# Altium footprint library Texas_Instruments.PcbLib: 113 footprints (part 3 of 8)
Each footprint in its own frame and in the unit in brackets; x right, y up, seen from the top. Pads: shape width x height; smd on the part's side, far side on the other; paste and mask are expansions set on the pad; w line width, h text height; cw(c..) or ccw(c..) is an arc to the next point about the centre after c.
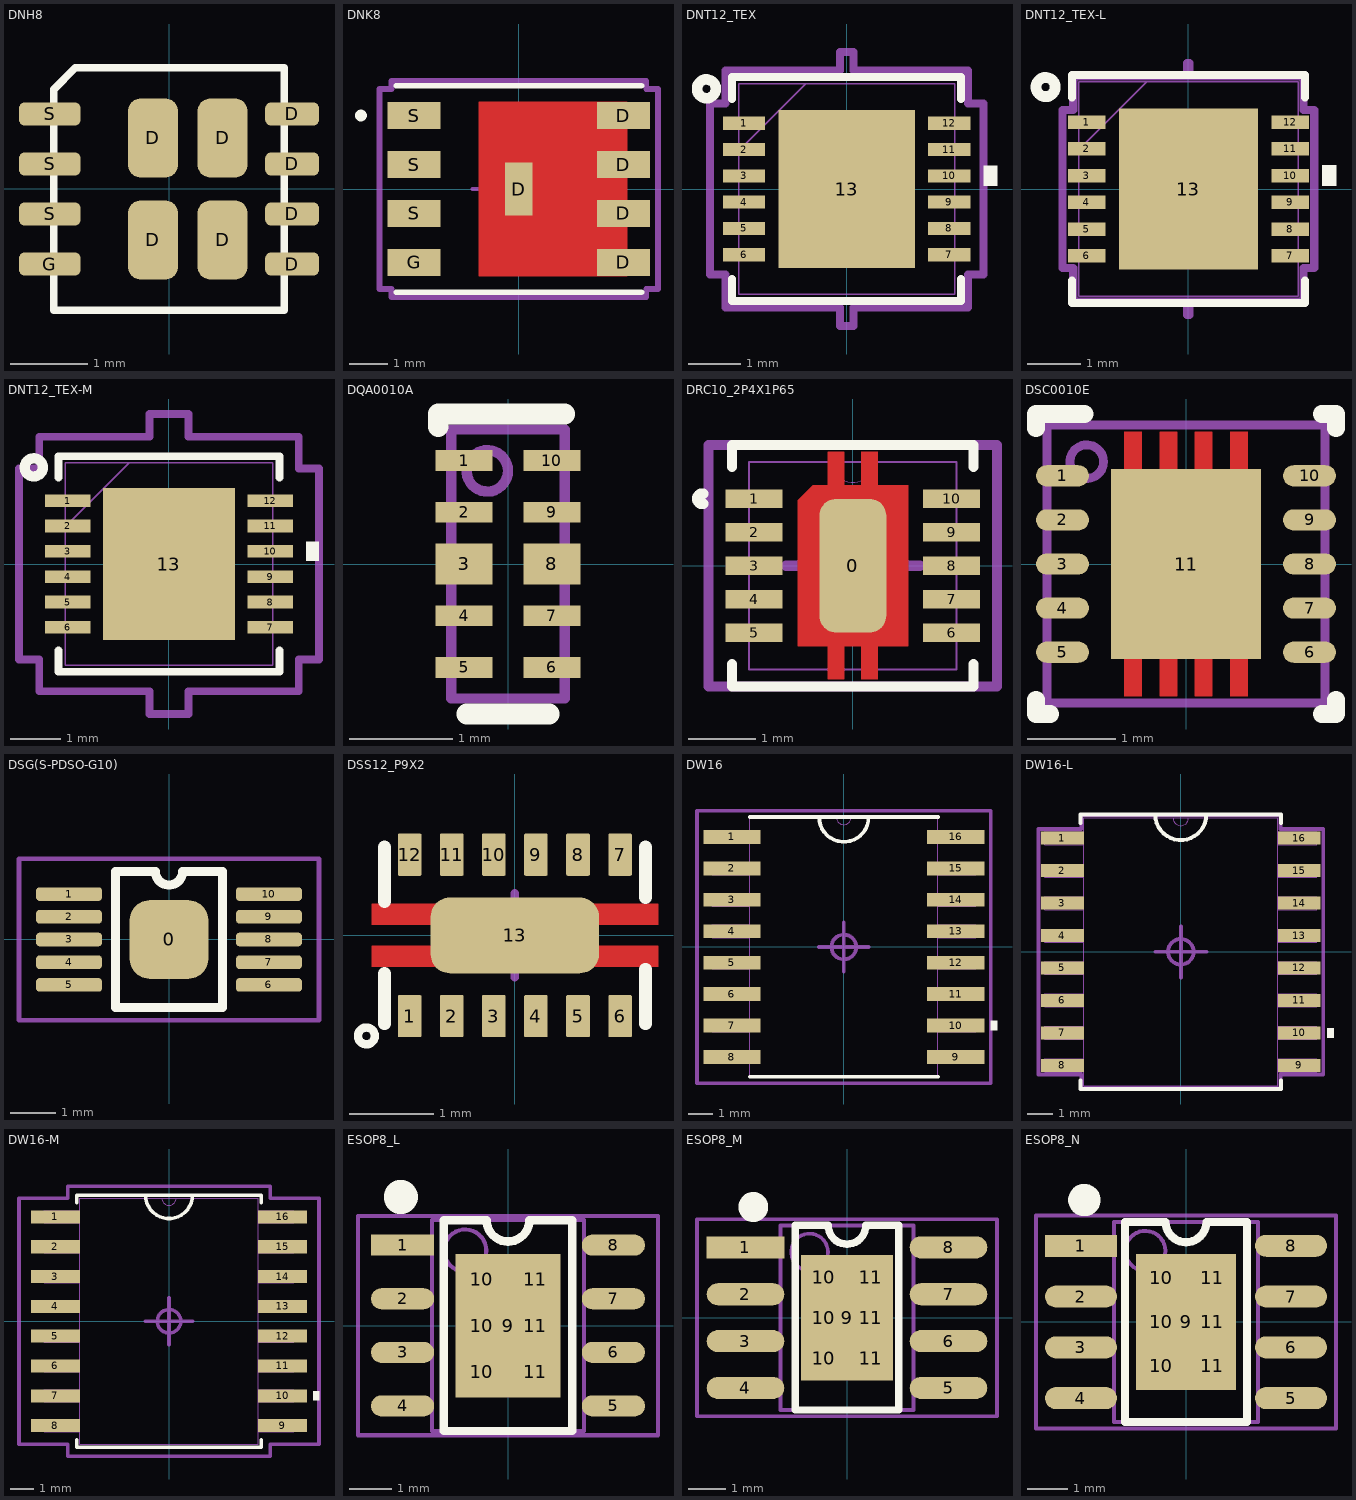
[diagram p2: the footprints below, top view; thin cyan lines are the x and y axes]

## DNH8 [mm]
pads (12):
  rrect50% 0.65x1.025 smd: D(-0.208,-0.663) D(-0.208,0.663) D(0.697,-0.663) D(0.697,0.663)
  rrect50% 0.7x0.3 smd: D(1.6,-0.975) D(1.6,-0.325) D(1.6,0.325) D(1.6,0.975)
  rrect50% 0.8x0.3 smd: G(-1.55,-0.975) S(-1.55,-0.325) S(-1.55,0.325) S(-1.55,0.975)
Top Overlay:
  lines w0.1: -1.5,-1.575 1.5,-1.575 1.5,1.575 -1.219,1.575 -1.5,1.294 -1.5,-1.575
3D body "User Library-8-VSONP3x3.STEP": height 0.9, standoff 0, extent -1.885,-1.9 1.885,1.9

## DNK8 [mm]
pads (9):
  rect 0.71x1.372 smd paste-0.673: D(0,0)
  rect 1.372x0.71 smd paste-0.673: D(2.712,-1.905) D(2.712,-0.635) D(2.712,0.635) D(2.712,1.905) G(-2.712,-1.905) S(-2.712,-0.635) S(-2.712,0.635) S(-2.712,1.905)
Top Layer:
  region: -1.042,-2.26 -1.042,2.26 2.808,2.26 2.808,-2.26
Top Overlay:
  circle w0.152: c-4.091,1.905 r0.076
  lines w0.152: -3.177,-2.677 3.177,-2.677 ; -3.177,2.677 3.177,2.677
Top Solder:
  region: 2.765,-2.26 2.765,2.26 -1.085,2.26 -1.085,-2.26
  region: -2.026,2.26 -3.398,2.26 -3.398,1.55 -2.026,1.55
  region: 3.398,2.26 2.026,2.26 2.026,1.55 3.398,1.55
  region: 3.398,0.99 2.026,0.99 2.026,0.28 3.398,0.28
  region: 3.398,-0.28 2.026,-0.28 2.026,-0.99 3.398,-0.99
  region: 3.398,-1.55 2.026,-1.55 2.026,-2.26 3.398,-2.26
  region: -2.026,-1.55 -3.398,-1.55 -3.398,-2.26 -2.026,-2.26
  region: -2.026,-0.28 -3.398,-0.28 -3.398,-0.99 -2.026,-0.99
  region: -2.026,0.99 -3.398,0.99 -3.398,0.28 -2.026,0.28
Mechanical 15:
  circle w0.1: c0,0 r0.5
  lines w0.1: -1.2,0 0,0 ; 0,-1.2 0,0 ; 0,1.2 0,0 ; 1.2,0 0,0
  lines w0.152: -3.609,-2.591 -3.304,-2.591 -3.304,-2.804 3.304,-2.804 3.304,-2.591 3.609,-2.591 3.609,2.591 3.304,2.591 3.304,2.804 -3.304,2.804 -3.304,2.591 -3.609,2.591 -3.609,-2.591
3D body "User Library-VSON-8.STEP": height 1, standoff 0, extent -3,-2.5 3.002,2.5

## DNT12_TEX [mm]
pads (13):
  rect 0.8x0.25 smd: 1(-1.95,1.25) 2(-1.95,0.75) 3(-1.95,0.25) 4(-1.95,-0.25) 5(-1.95,-0.75) 6(-1.95,-1.25) 7(1.95,-1.25) 8(1.95,-0.75) 9(1.95,-0.25) 10(1.95,0.25) 11(1.95,0.75) 12(1.95,1.25)
  rect 2.6x3 smd: 13(0,0)
Top Overlay:
  circle w0.2: c-2.667,1.905 r0.18
  region: 2.604,0.44 2.858,0.44 2.858,0.059 2.604,0.059
  lines w0.152: -2.177,-1.708 -2.177,-2.127 2.177,-2.127 2.177,-1.708 ; -2.177,1.708 -2.177,2.127 2.177,2.127 2.177,1.708
Top Paste:
  drawing of 16 lines, arcs and shapes, not listed
Top Solder:
  region: 0.987,-1.563 0.987,1.563 1.363,1.563 1.363,-1.563
  region: 0.587,-1.563 0.587,1.563 0.2,1.563 0.2,-1.563
  region: -0.2,-1.563 -0.2,1.563 -0.587,1.563 -0.587,-1.563
  region: -1.363,-1.563 -1.363,1.563 -0.987,1.563 -0.987,-1.563
  region: -1.363,-1.563 -1.363,-0.987 1.363,-0.987 1.363,-1.563
  region: -1.363,-0.587 -1.363,-0.2 1.363,-0.2 1.363,-0.587
  region: -1.363,0.2 -1.363,0.587 1.363,0.587 1.363,0.2
  region: -1.363,0.987 -1.363,1.563 1.363,1.563 1.363,0.987
Mechanical 13:
  lines w0.025: -2.05,0.73 -0.78,2 ; -2.05,-2 -2.05,2 2.05,2 2.05,-2 -2.05,-2 ; -2.05,-1.4 -2.05,-1.1 -2.05,-1.4 ; -2.05,-0.9 -2.05,-0.6 -2.05,-0.9 ; -2.05,-0.4 -2.05,-0.1 -2.05,-0.4 ; -2.05,0.1 -2.05,0.4 -2.05,0.1 ; -2.05,0.6 -2.05,0.9 -2.05,0.6 ; -2.05,1.1 -2.05,1.4 -2.05,1.1 ; 2.05,-1.4 2.05,-1.1 2.05,-1.4 ; 2.05,-0.9 2.05,-0.6 2.05,-0.9 ; 2.05,-0.4 2.05,-0.1 2.05,-0.4 ; 2.05,0.1 2.05,0.4 2.05,0.1 ; 2.05,0.6 2.05,0.9 2.05,0.6 ; 2.05,1.1 2.05,1.4 2.05,1.1
Mechanical 15:
  circle w0.1: c0,0 r0.5
  lines w0.1: -1,0 0,0 ; 0,-1 0,0 ; 0,1 0,0 ; 1,0 0,0
  lines w0.152: -2.604,-1.629 -2.604,1.629 -2.304,1.629 -2.304,2.254 -0.129,2.254 -0.129,2.604 0.129,2.604 0.129,2.254 2.304,2.254 2.304,1.629 2.604,1.629 2.604,-1.629 2.304,-1.629 2.304,-2.254 0.129,-2.254 0.129,-2.604 -0.129,-2.604 -0.129,-2.254 -2.304,-2.254 -2.304,-1.629 -2.604,-1.629
3D body "DNT0012B.stp": height 0.97, standoff 0, extent -2,-2 2,2

## DNT12_TEX-L [mm]
pads (13):
  rect 0.7x0.25 smd: 1(-1.9,1.25) 2(-1.9,0.75) 3(-1.9,0.25) 4(-1.9,-0.25) 5(-1.9,-0.75) 6(-1.9,-1.25) 7(1.9,-1.25) 8(1.9,-0.75) 9(1.9,-0.25) 10(1.9,0.25) 11(1.9,0.75) 12(1.9,1.25)
  rect 2.6x3 smd: 13(0,0)
Top Overlay:
  circle w0.2: c-2.667,1.905 r0.18
  region: 2.504,0.44 2.758,0.44 2.758,0.059 2.504,0.059
  lines w0.152: -2.177,-1.708 -2.177,-2.127 2.177,-2.127 2.177,-1.708 ; -2.177,1.708 -2.177,2.127 2.177,2.127 2.177,1.708
Top Paste:
  drawing of 16 lines, arcs and shapes, not listed
Top Solder:
  region: -1.363,0.987 -1.363,1.563 1.363,1.563 1.363,0.987
  region: -1.363,0.2 -1.363,0.587 1.363,0.587 1.363,0.2
  region: -1.363,-0.587 -1.363,-0.2 1.363,-0.2 1.363,-0.587
  region: -1.363,-1.563 -1.363,-0.987 1.363,-0.987 1.363,-1.563
  region: -1.363,-1.563 -1.363,1.563 -0.987,1.563 -0.987,-1.563
  region: -0.2,-1.563 -0.2,1.563 -0.587,1.563 -0.587,-1.563
  region: 0.587,-1.563 0.587,1.563 0.2,1.563 0.2,-1.563
  region: 0.987,-1.563 0.987,1.563 1.363,1.563 1.363,-1.563
Mechanical 13:
  lines w0.025: -2.05,0.73 -0.78,2 ; -2.05,-2 2.05,-2 2.05,2 -2.05,2 -2.05,-2 ; -2.05,-1.4 -2.05,-1.1 -2.05,-1.4 ; -2.05,-0.9 -2.05,-0.6 -2.05,-0.9 ; -2.05,-0.4 -2.05,-0.1 -2.05,-0.4 ; -2.05,0.1 -2.05,0.4 -2.05,0.1 ; -2.05,0.6 -2.05,0.9 -2.05,0.6 ; -2.05,1.1 -2.05,1.4 -2.05,1.1 ; 2.05,-1.4 2.05,-1.1 2.05,-1.4 ; 2.05,-0.9 2.05,-0.6 2.05,-0.9 ; 2.05,-0.4 2.05,-0.1 2.05,-0.4 ; 2.05,0.1 2.05,0.4 2.05,0.1 ; 2.05,0.6 2.05,0.9 2.05,0.6 ; 2.05,1.1 2.05,1.4 2.05,1.1
Mechanical 15:
  circle w0.1: c0,0 r0.5
  lines w0.1: -1,0 0,0 ; 0,-1 0,0 ; 0,1 0,0 ; 1,0 0,0
  lines w0.152: -2.352,-1.477 -2.152,-1.477 -2.152,-2.102 0.023,-2.102 0.023,-2.352 -0.023,-2.352 -0.023,-2.102 2.152,-2.102 2.152,-1.477 2.352,-1.477 2.352,1.477 2.152,1.477 2.152,2.102 -0.023,2.102 -0.023,2.352 0.023,2.352 0.023,2.102 -2.152,2.102 -2.152,1.477 -2.352,1.477 -2.352,-1.477
3D body "DNT0012B.stp": height 0.97, standoff 0, extent -2,-2 2,2

## DNT12_TEX-M [mm]
pads (13):
  rect 0.9x0.25 smd paste+0 mask+0: 1(-2,1.25) 2(-2,0.75) 3(-2,0.25) 4(-2,-0.25) 5(-2,-0.75) 6(-2,-1.25) 7(2,-1.25) 8(2,-0.75) 9(2,-0.25) 10(2,0.25) 11(2,0.75) 12(2,1.25)
  rect 2.6x3 smd paste-1.487 mask-1.486: 13(0,0)
Top Overlay:
  circle w0.2: c-2.667,1.905 r0.18
  region: 2.704,0.44 2.958,0.44 2.958,0.059 2.704,0.059
  lines w0.152: -2.177,-1.708 -2.177,-2.127 2.177,-2.127 2.177,-1.708 ; -2.177,1.708 -2.177,2.127 2.177,2.127 2.177,1.708
Top Paste:
  drawing of 16 lines, arcs and shapes, not listed
Top Solder:
  region: 0.987,-1.563 0.987,1.563 1.363,1.563 1.363,-1.563
  region: 0.587,-1.563 0.587,1.563 0.2,1.563 0.2,-1.563
  region: -0.2,-1.563 -0.2,1.563 -0.587,1.563 -0.587,-1.563
  region: -1.363,-1.563 -1.363,1.563 -0.987,1.563 -0.987,-1.563
  region: -1.363,-1.563 -1.363,-0.987 1.363,-0.987 1.363,-1.563
  region: -1.363,-0.587 -1.363,-0.2 1.363,-0.2 1.363,-0.587
  region: -1.363,0.2 -1.363,0.587 1.363,0.587 1.363,0.2
  region: -1.363,0.987 -1.363,1.563 1.363,1.563 1.363,0.987
Mechanical 13:
  lines w0.025: -2.05,0.73 -0.78,2 ; -2.05,-2 -2.05,2 2.05,2 2.05,-2 -2.05,-2 ; -2.05,-1.4 -2.05,-1.1 -2.05,-1.4 ; -2.05,-0.9 -2.05,-0.6 -2.05,-0.9 ; -2.05,-0.4 -2.05,-0.1 -2.05,-0.4 ; -2.05,0.1 -2.05,0.4 -2.05,0.1 ; -2.05,0.6 -2.05,0.9 -2.05,0.6 ; -2.05,1.1 -2.05,1.4 -2.05,1.1 ; 2.05,-1.4 2.05,-1.1 2.05,-1.4 ; 2.05,-0.9 2.05,-0.6 2.05,-0.9 ; 2.05,-0.4 2.05,-0.1 2.05,-0.4 ; 2.05,0.1 2.05,0.4 2.05,0.1 ; 2.05,0.6 2.05,0.9 2.05,0.6 ; 2.05,1.1 2.05,1.4 2.05,1.1
Mechanical 15:
  circle w0.1: c0,0 r0.5
  lines w0.1: -1,0 0,0 ; 0,-1 0,0 ; 0,1 0,0 ; 1,0 0,0
  lines w0.152: -2.958,-1.883 -2.958,1.883 -2.558,1.883 -2.558,2.508 -0.383,2.508 -0.383,2.958 0.383,2.958 0.383,2.508 2.558,2.508 2.558,1.883 2.958,1.883 2.958,-1.883 2.558,-1.883 2.558,-2.508 0.383,-2.508 0.383,-2.958 -0.383,-2.958 -0.383,-2.508 -2.558,-2.508 -2.558,-1.883 -2.958,-1.883
3D body "DNT0012B.stp": height 0.97, standoff 0, extent -2,-2 2,2

## DQA0010A [mm]
pads (10):
  rect 0.55x0.2 smd paste+0 mask+0.051: 1(-0.425,1) 2(-0.425,0.5) 4(-0.425,-0.5) 5(-0.425,-1) 6(0.425,-1) 7(0.425,-0.5) 9(0.425,0.5) 10(0.425,1)
  rect 0.55x0.4 smd paste+0 mask+0.051: 3(-0.425,0) 8(0.425,0)
Top Overlay:
  lines w0.2: -0.675,1.33 -0.675,1.45 -0.55,1.45 0.55,1.45 ; -0.4,-1.45 0.4,-1.45
Mechanical 13:
  circle w0.1: c-0.2,0.9 r0.2
  lines w0.1: -0.55,-1.3 0.55,-1.3 0.55,1.3 -0.55,1.3 -0.55,-1.3
3D body "DQA0010A.stp": height 0.55, standoff 0, extent -0.5,-1.25 0.5,1.25

## DRC10_2P4X1P65 [mm]
pads (11):
  rrect50% 1x2 smd: 0(0,0)
  rect 0.85x0.28 smd: 1(-1.475,1) 2(-1.475,0.5) 3(-1.475,0) 4(-1.475,-0.5) 5(-1.475,-1) 6(1.475,-1) 7(1.475,-0.5) 8(1.475,0) 9(1.475,0.5) 10(1.475,1)
Top Layer:
  region: -0.375,-1.7 -0.375,-1.2 -0.825,-1.2 -0.825,0.975 -0.6,1.2 -0.375,1.2 -0.375,1.7 -0.125,1.7 -0.125,1.2 0.125,1.2 0.125,1.7 0.375,1.7 0.375,1.2 0.825,1.2 0.825,-1.2 0.375,-1.2 0.375,-1.7 0.125,-1.7 0.125,-1.2 -0.125,-1.2 -0.125,-1.7
Top Overlay:
  lines w0.152: -2.233,0.926 cw(c-2.252,1) -2.233,1.074 ; -1.804,-1.473 -1.804,-1.804 1.804,-1.804 1.804,-1.473 ; -1.804,1.473 -1.804,1.804 1.804,1.804 1.804,1.473
Top Paste:
  region: 1.865,1.105 1.085,1.105 1.085,0.895 1.865,0.895
  region: 1.865,0.605 1.085,0.605 1.085,0.395 1.865,0.395
  region: 1.865,0.105 1.085,0.105 1.085,-0.105 1.865,-0.105
  region: 1.865,-0.395 1.085,-0.395 1.085,-0.605 1.865,-0.605
  region: 1.865,-0.895 1.085,-0.895 1.085,-1.105 1.865,-1.105
  region: -1.085,-0.895 -1.865,-0.895 -1.865,-1.105 -1.085,-1.105
  region: -1.085,-0.395 -1.865,-0.395 -1.865,-0.605 -1.085,-0.605
  region: -1.085,0.105 -1.865,0.105 -1.865,-0.105 -1.085,-0.105
  region: -1.085,0.605 -1.865,0.605 -1.865,0.395 -1.085,0.395
  region: -1.085,1.105 -1.865,1.105 -1.865,0.895 -1.085,0.895
  region: -0.375,-1.7 -0.375,-1.2 -0.825,-1.2 -0.825,0.975 -0.6,1.2 -0.375,1.2 -0.375,1.7 -0.125,1.7 -0.125,1.2 0.125,1.2 0.125,1.7 0.375,1.7 0.375,1.2 0.825,1.2 0.825,-1.2 0.375,-1.2 0.375,-1.7 0.125,-1.7 0.125,-1.2 -0.125,-1.2 -0.125,-1.7
Top Solder:
  region: 1.935,1.175 1.015,1.175 1.015,0.825 1.935,0.825
  region: 1.935,0.675 1.015,0.675 1.015,0.325 1.935,0.325
  region: 1.935,0.175 1.015,0.175 1.015,-0.175 1.935,-0.175
  region: 1.935,-0.325 1.015,-0.325 1.015,-0.675 1.935,-0.675
  region: 1.935,-0.825 1.015,-0.825 1.015,-1.175 1.935,-1.175
  region: -1.015,-0.825 -1.935,-0.825 -1.935,-1.175 -1.015,-1.175
  region: -1.015,-0.325 -1.935,-0.325 -1.935,-0.675 -1.015,-0.675
  region: -1.015,0.175 -1.935,0.175 -1.935,-0.175 -1.015,-0.175
  region: -1.015,0.675 -1.935,0.675 -1.935,0.325 -1.015,0.325
  region: -1.015,1.175 -1.935,1.175 -1.935,0.825 -1.015,0.825
  region: -0.375,-1.7 -0.375,-1.2 -0.825,-1.2 -0.825,0.975 -0.6,1.2 -0.375,1.2 -0.375,1.7 -0.125,1.7 -0.125,1.2 0.125,1.2 0.125,1.7 0.375,1.7 0.375,1.2 0.825,1.2 0.825,-1.2 0.375,-1.2 0.375,-1.7 0.125,-1.7 0.125,-1.2 -0.125,-1.2 -0.125,-1.7
Mechanical 13:
  circle w0: c-2.252,1 r0.076
  lines w0: -0.305,1.55 ccw(c0,1.55) 0.305,1.55
  lines w0.025: -1.55,-1.55 -1.55,1.55 1.55,1.55 1.55,-1.55 -1.55,-1.55
Mechanical 15:
  circle w0.152: c0,0 r0.5
  lines w0.152: -1,0 0,0 ; 0,-1 0,0 ; 0,1 0,0 ; 1,0 0,0 ; -2.154,-1.804 2.154,-1.804 2.154,1.804 -2.154,1.804 -2.154,-1.804
3D body "DRC10_2P4X1P65.step": height 1, standoff 0, extent -1.499,-1.55 1.499,1.55

## DSC0010E [mm]
pads (11):
  oval 0.6x0.24 smd paste+0 mask+0.051: 1(-1.4,1) 2(-1.4,0.5) 3(-1.4,0) 4(-1.4,-0.5) 5(-1.4,-1) 6(1.4,-1) 7(1.4,-0.5) 8(1.4,0) 9(1.4,0.5) 10(1.4,1)
  rect 1.7x2.15 smd paste-1.062 mask+0.051: 11(0,0)
Top Layer:
  region: -0.7,1.5 -0.7,1.06 -0.5,1.06 -0.5,1.5
  region: -0.3,1.5 -0.3,1.06 -0.1,1.06 -0.1,1.5
  region: 0.3,1.06 0.3,1.5 0.1,1.5 0.1,1.06
  region: 0.7,1.06 0.7,1.5 0.5,1.5 0.5,1.06
  region: 0.7,-1.5 0.7,-1.06 0.5,-1.06 0.5,-1.5
  region: 0.3,-1.5 0.3,-1.06 0.1,-1.06 0.1,-1.5
  region: -0.3,-1.06 -0.3,-1.5 -0.1,-1.5 -0.1,-1.06
  region: -0.7,-1.06 -0.7,-1.5 -0.5,-1.5 -0.5,-1.06
Top Overlay:
  lines w0.2: -1.7,-1.54 -1.7,-1.7 -1.54,-1.7 ; -1.7,1.54 -1.7,1.7 -1.15,1.7 ; 1.54,-1.7 1.7,-1.7 1.7,-1.54 ; 1.54,1.7 1.7,1.7 1.7,1.54
Top Paste:
  region: -0.775,0.1 0.775,0.1 0.775,1.075 -0.775,1.075
  region: 0.775,-0.1 -0.775,-0.1 -0.775,-1.075 0.775,-1.075
Top Solder:
  region: -0.751,1.551 -0.751,1.009 -0.449,1.009 -0.449,1.551
  region: -0.351,1.551 -0.351,1.009 -0.049,1.009 -0.049,1.551
  region: 0.351,1.009 0.351,1.551 0.049,1.551 0.049,1.009
  region: 0.751,1.009 0.751,1.551 0.449,1.551 0.449,1.009
  region: 0.751,-1.551 0.751,-1.009 0.449,-1.009 0.449,-1.551
  region: 0.351,-1.551 0.351,-1.009 0.049,-1.009 0.049,-1.551
  region: -0.351,-1.009 -0.351,-1.551 -0.049,-1.551 -0.049,-1.009
  region: -0.751,-1.009 -0.751,-1.551 -0.449,-1.551 -0.449,-1.009
Mechanical 13:
  circle w0.1: c-1.125,1.16 r0.19
  lines w0.1: 1.575,-1.575 1.575,1.575 -1.575,1.575 -1.575,-1.575 1.55,-1.575 1.575,-1.55
Mechanical 15:
  circle w0.05: c0,0 r0.35
  lines w0.05: -0.5,0 0.5,0 ; 0,-0.5 0,0.5
3D body "User Library-10WSON.STEP": height 0.7, standoff 0.01, extent -1.505,-1.501 1.505,1.499

## DSG(S-PDSO-G10) [mm]
pads (11):
  rrect50% 1.73x1.73 smd: 0(0,0)
  rrect50% 1.45x0.3 smd: 1(-2.2,1) 2(-2.2,0.5) 3(-2.2,0) 4(-2.2,-0.5) 5(-2.2,-1) 6(2.2,-1) 7(2.2,-0.5) 8(2.2,0) 9(2.2,0.5) 10(2.2,1)
Top Overlay:
  lines w0.2: -1.178,-1.5 1.178,-1.5 1.178,1.5 0.3,1.5 cw(c0,1.5) -0.3,1.5 -1.178,1.5 -1.178,-1.5
Mechanical 15:
  circle w0.1: c0,0 r0.25
  lines w0.1: -0.5,0 0.5,0 ; 0,-0.5 0,0.5 ; -3.302,-1.778 3.302,-1.778 3.302,1.778 -3.302,1.778 -3.302,-1.778
3D body "User Library-TSSOP-10.STEP": height 1.1, standoff 0, extent -2.5,-1.5 2.5,1.5

## DSS12_P9X2 [mm]
pads (13):
  rrect10% 0.28x0.5 smd: 1(-1.25,-0.959) 2(-0.75,-0.959) 3(-0.25,-0.959) 4(0.25,-0.959) 5(0.75,-0.959) 6(1.25,-0.959) 7(1.25,0.959) 8(0.75,0.959) 9(0.25,0.959) 10(-0.25,0.959) 11(-0.75,0.959) 12(-1.25,0.959)
  rrect50% 2x0.9 smd: 13(0,0)
Top Layer:
  region: -0.889,0.375 -0.889,0.125 -1.7,0.125 -1.7,0.375
  region: -0.889,-0.375 -0.889,-0.125 -1.7,-0.125 -1.7,-0.375
  region: 0.889,-0.375 0.889,-0.125 1.7,-0.125 1.7,-0.375
  region: 0.889,0.375 0.889,0.125 1.7,0.125 1.7,0.375
  region: 0.152,-1.279
  region: 0.152,0.721
Top Overlay:
  circle w0.1: c-1.763,-1.194 r0.1
  lines w0.152: -1.55,-1.05 -1.55,-0.451 ; -1.55,0.402 -1.55,1.05 ; 1.55,-1.05 1.55,-0.402 ; 1.55,0.451 1.55,1.05
Top Paste:
  region: 0.152,-1.279
  region: 0.152,0.721
Top Solder:
  region: 0.152,-1.279
  region: 0.152,0.721
Mechanical 15:
  circle w0.1: c0,0 r0.2
  lines w0.1: -0.5,0 0,0 ; 0,-0.5 0,0 ; 0,0.5 0,0 ; 0.5,0 0,0
3D body "DSS0012A.stp": height 0.8, standoff 0, extent -1.5,-1 1.5,1

## DW16 [mil]
pads (16):
  rect 91x22 smd: 1(-178,175) 2(-178,125) 3(-178,75) 4(-178,25) 5(-178,-25) 6(-178,-75) 7(-178,-125) 8(-178,-175) 9(178,-175) 10(178,-125) 11(178,-75) 12(178,-25) 13(178,25) 14(178,75) 15(178,125) 16(178,175)
Top Overlay:
  region: 233.5,-117.5 243.5,-117.5 243.5,-132.5 233.5,-132.5
  lines w6: -149.5,-206.5 149.5,-206.5 ; -149.5,206.5 39.37,206.5 ; -39.37,206.5 ccw(c0,206.5) 39.37,206.5 ; 149.5,206.5 39.37,206.5
Mechanical 13:
  lines w0: -12,206.5 ccw(c0,206.5) 12,206.5
  lines w1: -209.5,-185 -209.5,-165 -149.5,-165 -149.5,-185 -209.5,-185 ; -209.5,-135 -209.5,-115 -149.5,-115 -149.5,-135 -209.5,-135 ; -209.5,-85 -209.5,-65 -149.5,-65 -149.5,-85 -209.5,-85 ; -209.5,-35 -209.5,-15 -149.5,-15 -149.5,-35 -209.5,-35 ; -209.5,15 -209.5,35 -149.5,35 -149.5,15 -209.5,15 ; -209.5,65 -209.5,85 -149.5,85 -149.5,65 -209.5,65 ; -209.5,115 -209.5,135 -149.5,135 -149.5,115 -209.5,115 ; -209.5,165 -209.5,185 -149.5,185 -149.5,165 -209.5,165 ; -149.5,-206.5 149.5,-206.5 149.5,206.5 -149.5,206.5 -149.5,-206.5 ; 149.5,-185 149.5,-165 209.5,-165 209.5,-185 149.5,-185 ; 149.5,-135 149.5,-115 209.5,-115 209.5,-135 149.5,-135 ; 149.5,-85 149.5,-65 209.5,-65 209.5,-85 149.5,-85 ; 149.5,-35 149.5,-15 209.5,-15 209.5,-35 149.5,-35 ; 149.5,15 149.5,35 209.5,35 209.5,15 149.5,15 ; 149.5,65 149.5,85 209.5,85 209.5,65 149.5,65 ; 149.5,115 149.5,135 209.5,135 209.5,115 149.5,115 ; 149.5,165 149.5,185 209.5,185 209.5,165 149.5,165
Mechanical 15:
  circle w5.98: c0,0 r19.68
  lines w5.98: -39.37,0 0,0 ; 0,-39.37 0,0 ; 0,39.37 0,0 ; 39.37,0 0,0
  lines w6: -233.5,-216.5 -233.5,216.5 233.5,216.5 233.5,-216.5 -233.5,-216.5
3D body "DW0016B.stp": height 101.81, standoff 0, extent -203.44,-202.75 203.45,202.76

## DW16-L [mil]
pads (16):
  rect 66x20 smd: 1(-182.5,175) 2(-182.5,125) 3(-182.5,75) 4(-182.5,25) 5(-182.5,-25) 6(-182.5,-75) 7(-182.5,-125) 8(-182.5,-175) 9(182.5,-175) 10(182.5,-125) 11(182.5,-75) 12(182.5,-25) 13(182.5,25) 14(182.5,75) 15(182.5,125) 16(182.5,175)
Top Overlay:
  region: 225.5,-117.5 235.5,-117.5 235.5,-132.5 225.5,-132.5
  lines w6: -154.5,-198.1 -154.5,-211.5 154.5,-211.5 154.5,-198.1 ; -154.5,198.1 -154.5,211.5 154.5,211.5 154.5,198.1 ; -39.37,211.5 ccw(c0,211.5) 39.37,211.5
Mechanical 13:
  lines w0: -12,206.5 ccw(c0,206.5) 12,206.5
  lines w1: -209.5,-185 -209.5,-165 -149.5,-165 -149.5,-185 -209.5,-185 ; -209.5,-135 -209.5,-115 -149.5,-115 -149.5,-135 -209.5,-135 ; -209.5,-85 -209.5,-65 -149.5,-65 -149.5,-85 -209.5,-85 ; -209.5,-35 -209.5,-15 -149.5,-15 -149.5,-35 -209.5,-35 ; -209.5,15 -209.5,35 -149.5,35 -149.5,15 -209.5,15 ; -209.5,65 -209.5,85 -149.5,85 -149.5,65 -209.5,65 ; -209.5,115 -209.5,135 -149.5,135 -149.5,115 -209.5,115 ; -209.5,165 -209.5,185 -149.5,185 -149.5,165 -209.5,165 ; -149.5,-206.5 149.5,-206.5 149.5,206.5 -149.5,206.5 -149.5,-206.5 ; 149.5,-185 149.5,-165 209.5,-165 209.5,-185 149.5,-185 ; 149.5,-135 149.5,-115 209.5,-115 209.5,-135 149.5,-135 ; 149.5,-85 149.5,-65 209.5,-65 209.5,-85 149.5,-85 ; 149.5,-35 149.5,-15 209.5,-15 209.5,-35 149.5,-35 ; 149.5,15 149.5,35 209.5,35 209.5,15 149.5,15 ; 149.5,65 149.5,85 209.5,85 209.5,65 149.5,65 ; 149.5,115 149.5,135 209.5,135 209.5,115 149.5,115 ; 149.5,165 149.5,185 209.5,185 209.5,165 149.5,165
Mechanical 15:
  circle w5.98: c0,0 r19.68
  lines w5.98: -39.37,0 0,0 ; 0,-39.37 0,0 ; 0,39.37 0,0 ; 39.37,0 0,0
  lines w6: -219.5,-189 -219.5,189 -153.5,189 -153.5,210.5 153.5,210.5 153.5,189 219.5,189 219.5,-189 153.5,-189 153.5,-210.5 -153.5,-210.5 -153.5,-189 -219.5,-189
3D body "DW0016B.stp": height 101.81, standoff 0, extent -203.44,-202.75 203.45,202.76

## DW16-M [mil]
pads (16):
  rect 82x22 smd: 1(-190.5,175) 2(-190.5,125) 3(-190.5,75) 4(-190.5,25) 5(-190.5,-25) 6(-190.5,-75) 7(-190.5,-125) 8(-190.5,-175) 9(190.5,-175) 10(190.5,-125) 11(190.5,-75) 12(190.5,-25) 13(190.5,25) 14(190.5,75) 15(190.5,125) 16(190.5,175)
Top Overlay:
  region: 241.5,-117.5 251.5,-117.5 251.5,-132.5 241.5,-132.5
  lines w6: -154.5,-199.1 -154.5,-211.5 154.5,-211.5 154.5,-199.1 ; -154.5,199.1 -154.5,211.5 154.5,211.5 154.5,199.1 ; -39.37,211.5 ccw(c0,211.5) 39.37,211.5
Mechanical 13:
  lines w0: -12,206.5 ccw(c0,206.5) 12,206.5
  lines w1: -209.5,-185 -209.5,-165 -149.5,-165 -149.5,-185 -209.5,-185 ; -209.5,-135 -209.5,-115 -149.5,-115 -149.5,-135 -209.5,-135 ; -209.5,-85 -209.5,-65 -149.5,-65 -149.5,-85 -209.5,-85 ; -209.5,-35 -209.5,-15 -149.5,-15 -149.5,-35 -209.5,-35 ; -209.5,15 -209.5,35 -149.5,35 -149.5,15 -209.5,15 ; -209.5,65 -209.5,85 -149.5,85 -149.5,65 -209.5,65 ; -209.5,115 -209.5,135 -149.5,135 -149.5,115 -209.5,115 ; -209.5,165 -209.5,185 -149.5,185 -149.5,165 -209.5,165 ; -149.5,-206.5 149.5,-206.5 149.5,206.5 -149.5,206.5 -149.5,-206.5 ; 149.5,-185 149.5,-165 209.5,-165 209.5,-185 149.5,-185 ; 149.5,-135 149.5,-115 209.5,-115 209.5,-135 149.5,-135 ; 149.5,-85 149.5,-65 209.5,-65 209.5,-85 149.5,-85 ; 149.5,-35 149.5,-15 209.5,-15 209.5,-35 149.5,-35 ; 149.5,15 149.5,35 209.5,35 209.5,15 149.5,15 ; 149.5,65 149.5,85 209.5,85 209.5,65 149.5,65 ; 149.5,115 149.5,135 209.5,135 209.5,115 149.5,115 ; 149.5,165 149.5,185 209.5,185 209.5,165 149.5,165
Mechanical 15:
  circle w5.98: c0,0 r19.68
  lines w5.98: -39.37,0 0,0 ; 0,-39.37 0,0 ; 0,39.37 0,0 ; 39.37,0 0,0
  lines w6: -251.5,-206 -251.5,206 -169.5,206 -169.5,226.5 169.5,226.5 169.5,206 251.5,206 251.5,-206 169.5,-206 169.5,-226.5 -169.5,-226.5 -169.5,-206 -251.5,-206
3D body "DW0016B.stp": height 101.81, standoff 0, extent -203.44,-202.75 203.45,202.76

## ESOP8_L [mm] "5*6*1.8mm（长宽高）"
height 1.75
pads (15):
  rect 1.5x0.5 smd: 1(-2.5,1.905)
  oval 1.5x0.5 smd: 2(-2.5,0.635) 3(-2.5,-0.635) 4(-2.5,-1.905) 5(2.5,-1.905) 6(2.5,-0.635) 7(2.5,0.635) 8(2.5,1.905)
  rect 2.5x3.4 smd paste-2: 9(0,0)
  rect 0.9x0.7 on Top Paste: 10(-0.625,-1.1) 10(-0.625,0) 10(-0.625,1.1) 11(0.65,-1.1) 11(0.65,0) 11(0.65,1.1)
Top Overlay:
  circle w0.5: c-2.54,3.048 r0.155
  lines w0.2: -1.524,2.5 -1.524,-2.5 1.524,-2.5 1.524,2.5
  lines w0.203: -1.524,2.5 -0.508,2.5 ccw(c0,2.5) 0,1.992 ccw(c0,2.5) 0.508,2.5 1.524,2.5
Mechanical 13:
  circle w0.1: c-1.016,1.778 r0.5
  lines w0.1: -1.8,-2.5 -1.8,2.5 1.8,2.5 1.8,-2.5 -1.8,-2.5
Mechanical 15:
  circle w0.05: c0,0 r0.35
  lines w0.05: -0.5,0 0.5,0 ; 0,-0.5 0,0.5
  lines w0.1: -3.556,-2.6 -3.556,2.6 3.556,2.6 3.556,-2.6 -3.556,-2.6
3D body "ESOP8.STEP": height 1.53, standoff -0.01, extent -3.003,-2.5 3.003,2.5

## ESOP8_M [mm] "5*6*1.8mm（长宽高）"
height 1.75
pads (15):
  rect 2.1x0.6 smd: 1(-2.75,1.905)
  oval 2.1x0.6 smd: 2(-2.75,0.635) 3(-2.75,-0.635) 4(-2.75,-1.905) 5(2.75,-1.905) 6(2.75,-0.635) 7(2.75,0.635) 8(2.75,1.905)
  rect 2.5x3.4 smd paste-2: 9(0,0)
  rect 0.9x0.7 on Top Paste: 10(-0.625,-1.1) 10(-0.625,0) 10(-0.625,1.1) 11(0.65,-1.1) 11(0.65,0) 11(0.65,1.1)
Top Overlay:
  circle w0.5: c-2.54,3 r0.155
  lines w0.2: -1.397,2.5 -1.397,-2.5 1.397,-2.5 1.397,2.5
  lines w0.203: -1.397,2.5 -0.508,2.5 ccw(c0,2.5) 0,1.992 ccw(c0,2.5) 0.508,2.5 1.397,2.5
Mechanical 13:
  circle w0.1: c-1.016,1.778 r0.5
  lines w0.1: -1.8,-2.5 -1.8,2.5 1.8,2.5 1.8,-2.5 -1.8,-2.5
Mechanical 15:
  circle w0.05: c0,0 r0.35
  lines w0.05: -0.5,0 0.5,0 ; 0,-0.5 0,0.5
  lines w0.1: -4.064,-2.667 -4.064,2.667 4.064,2.667 4.064,-2.667 -4.064,-2.667
3D body "ESOP8.STEP": height 1.53, standoff -0.01, extent -3.003,-2.5 3.003,2.5

## ESOP8_N [mm] "5*6*1.8mm（长宽高）"
height 1.75
pads (15):
  rect 1.8x0.55 smd: 1(-2.625,1.905)
  oval 1.8x0.55 smd: 2(-2.625,0.635) 3(-2.625,-0.635) 4(-2.625,-1.905) 5(2.625,-1.905) 6(2.625,-0.635) 7(2.625,0.635) 8(2.625,1.905)
  rect 2.5x3.4 smd paste-2: 9(0,0)
  rect 0.9x0.7 on Top Paste: 10(-0.625,-1.1) 10(-0.625,0) 10(-0.625,1.1) 11(0.65,-1.1) 11(0.65,0) 11(0.65,1.1)
Top Overlay:
  circle w0.5: c-2.54,3.048 r0.155
  lines w0.2: -1.524,2.5 -1.524,-2.5 1.524,-2.5 1.524,2.5
  lines w0.203: -1.524,2.5 -0.508,2.5 ccw(c0,2.5) 0,1.992 ccw(c0,2.5) 0.508,2.5 1.524,2.5
Mechanical 13:
  circle w0.1: c-1.016,1.778 r0.5
  lines w0.1: -1.8,-2.5 1.8,-2.5 1.8,2.5 -1.8,2.5 -1.8,-2.5
Mechanical 15:
  circle w0.05: c0,0 r0.35
  lines w0.05: -0.5,0 0.5,0 ; 0,-0.5 0,0.5
  lines w0.1: -3.75,-2.667 -3.75,2.667 3.75,2.667 3.75,-2.667 -3.75,-2.667
3D body "ESOP8.STEP": height 1.53, standoff -0.01, extent -3.003,-2.5 3.003,2.5